# Altium footprint library Gate TRans.PcbLib: 1 footprints
Each footprint in its own frame and in the unit in brackets; x right, y up, seen from the top. Pads: shape width x height; smd on the part's side, far side on the other; paste and mask are expansions set on the pad; w line width, h text height; cw(c..) or ccw(c..) is an arc to the next point about the centre after c.
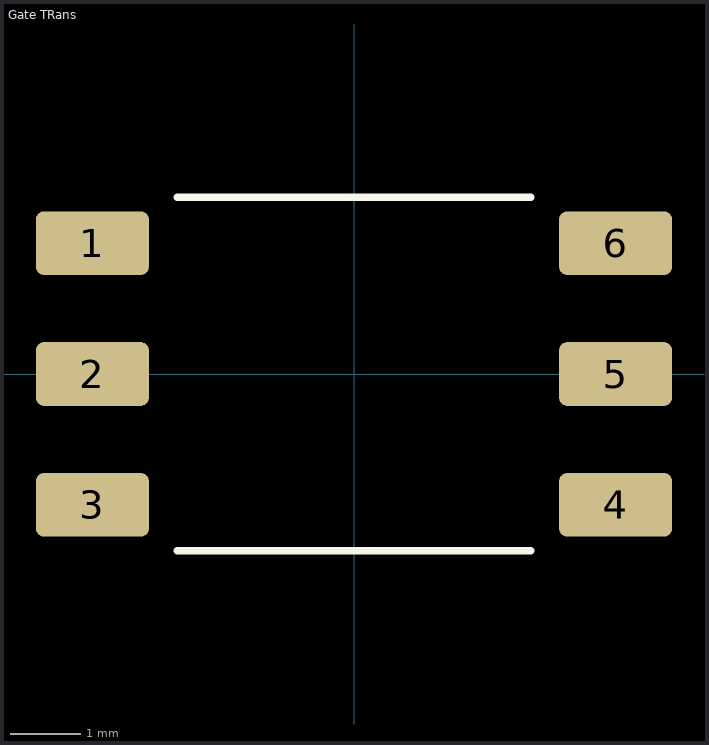
[diagram p0: the footprint, top view; thin cyan lines are the x and y axes]

## Gate TRans [mm]
pads (6):
  rrect25% 1.6x0.9 smd: 1(-3.7,1.85) 2(-3.7,0) 3(-3.7,-1.85) 4(3.7,-1.85) 5(3.7,0) 6(3.7,1.85)
Top Overlay:
  lines w0.1: -2.5,-2.5 2.5,-2.5 ; -2.5,2.5 2.5,2.5